# EAGLE library part PIC17C75XPT (library 00_cody)
MICROCONTROLLER
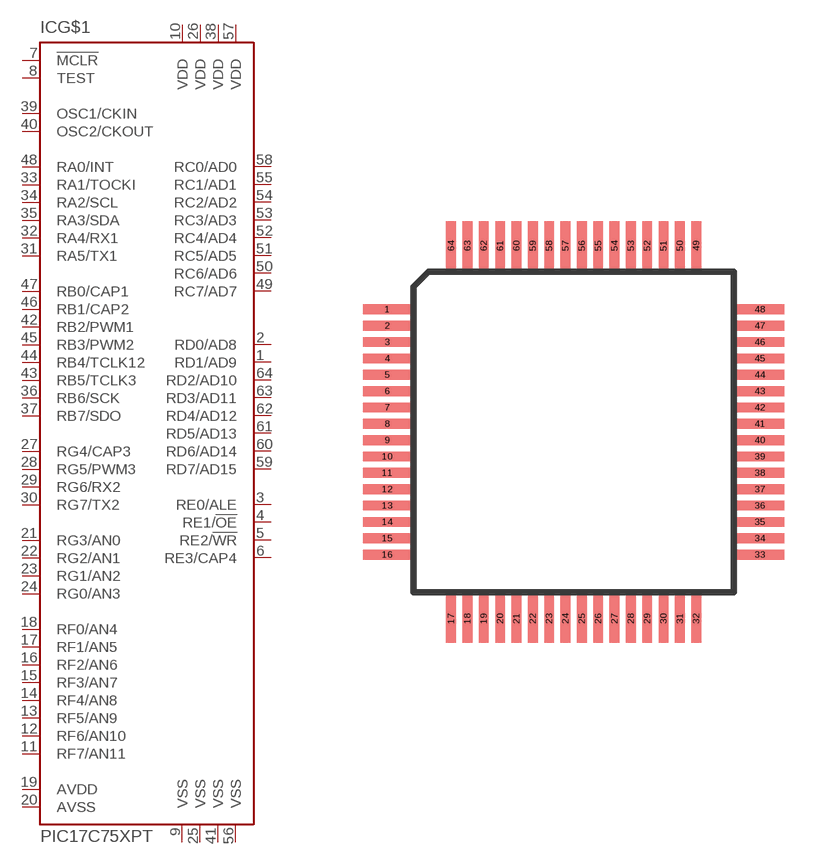
[diagram p56: symbol with the pads of TQFP64-10X10X1MM; footprint TQFP64-10X10X1MM]

Designator prefix IC; gates G$1=PIC17C75X P1=VDD P2=VDD P3=VDD P4=VDD P5=VSS P6=VSS P7=VSS P8=VSS

## PIC17C75XPTT (MF: MICROCHIP; MPN: PIC17C756A-33I/PT; OC_FARNELL: unknown; OC_NEWARK: 23C5980)  [TQFP64-10X10X1MM]
1  G$1:RD1/AD9
2  G$1:RD0/AD8
3  G$1:RE0/ALE
4  G$1:RE1/!OE
5  G$1:RE2/!WR
6  G$1:RE3/CAP4
7  G$1:!MCLR  in
8  G$1:TEST  in
9  P5:VSS  pwr
10  P1:VDD  pwr
11  G$1:RF7/AN11
12  G$1:RF6/AN10
13  G$1:RF5/AN9
14  G$1:RF4/AN8
15  G$1:RF3/AN7
16  G$1:RF2/AN6
17  G$1:RF1/AN5
18  G$1:RF0/AN4
19  G$1:AVDD  pwr
20  G$1:AVSS  pwr
21  G$1:RG3/AN0
22  G$1:RG2/AN1
23  G$1:RG1/AN2
24  G$1:RG0/AN3
25  P6:VSS  pwr
26  P2:VDD  pwr
27  G$1:RG4/CAP3
28  G$1:RG5/PWM3
29  G$1:RG6/RX2
30  G$1:RG7/TX2
31  G$1:RA5/TX1
32  G$1:RA4/RX1
33  G$1:RA1/TOCKI  in
34  G$1:RA2/SCL
35  G$1:RA3/SDA
36  G$1:RB6/SCK
37  G$1:RB7/SDO
38  P3:VDD  pwr
39  G$1:OSC1/CKIN  in
40  G$1:OSC2/CKOUT  out
41  P7:VSS  pwr
42  G$1:RB2/PWM1
43  G$1:RB5/TCLK3
44  G$1:RB4/TCLK12
45  G$1:RB3/PWM2
46  G$1:RB1/CAP2
47  G$1:RB0/CAP1
48  G$1:RA0/INT  in
49  G$1:RC7/AD7
50  G$1:RC6/AD6
51  G$1:RC5/AD5
52  G$1:RC4/AD4
53  G$1:RC3/AD3
54  G$1:RC2/AD2
55  G$1:RC1/AD1
56  P8:VSS  pwr
57  P4:VDD  pwr
58  G$1:RC0/AD0
59  G$1:RD7/AD15
60  G$1:RD6/AD14
61  G$1:RD5/AD13
62  G$1:RD4/AD12
63  G$1:RD3/AD11
64  G$1:RD2/AD10

## Footprint TQFP64-10X10X1MM (pad centres in mm)
64-Lead Plastic Thin Quad Flatpak (PT) - 10x10x1 mm Body Auto generated by make-symbol-device-package-bsdl.ulp Rev. 37 Source: http://ww1.microchip.com/downloads/en/DeviceDoc/61143G.pdf
smd 1.5 x 0.3: 1 -5.7,3.75; 2 -5.7,3.25; 3 -5.7,2.75; 4 -5.7,2.25; 5 -5.7,1.75; 6 -5.7,1.25; 7 -5.7,0.75; 8 -5.7,0.25; 9 -5.7,-0.25; 10 -5.7,-0.75; 11 -5.7,-1.25; 12 -5.7,-1.75; 13 -5.7,-2.25; 14 -5.7,-2.75; 15 -5.7,-3.25; 16 -5.7,-3.75; 33 5.7,-3.75; 34 5.7,-3.25; 35 5.7,-2.75; 36 5.7,-2.25; 37 5.7,-1.75; 38 5.7,-1.25; 39 5.7,-0.75; 40 5.7,-0.25; 41 5.7,0.25; 42 5.7,0.75; 43 5.7,1.25; 44 5.7,1.75; 45 5.7,2.25; 46 5.7,2.75; 47 5.7,3.25; 48 5.7,3.75
smd 0.3 x 1.5: 17 -3.75,-5.7; 18 -3.25,-5.7; 19 -2.75,-5.7; 20 -2.25,-5.7; 21 -1.75,-5.7; 22 -1.25,-5.7; 23 -0.75,-5.7; 24 -0.25,-5.7; 25 0.25,-5.7; 26 0.75,-5.7; 27 1.25,-5.7; 28 1.75,-5.7; 29 2.25,-5.7; 30 2.75,-5.7; 31 3.25,-5.7; 32 3.75,-5.7; 49 3.75,5.7; 50 3.25,5.7; 51 2.75,5.7; 52 2.25,5.7; 53 1.75,5.7; 54 1.25,5.7; 55 0.75,5.7; 56 0.25,5.7; 57 -0.25,5.7; 58 -0.75,5.7; 59 -1.25,5.7; 60 -1.75,5.7; 61 -2.25,5.7; 62 -2.75,5.7; 63 -3.25,5.7; 64 -3.75,5.7